# Altium schematic symbol library JST-PH2.SchLib: 1 symbol
Pins are listed as number, name and electrical type; pins without a type are passive.

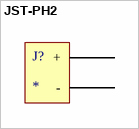
[diagram p0: symbol JST-PH2]

## JST-PH2
designator J?
footprint JST-PH2
pins: 1 -, 2 +